# Altium integrated library ECWFD2W105JC.IntLib: 1 symbol
Pins are listed as number, name and electrical type; pins without a type are passive.

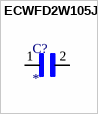
[diagram p0: symbol ECWFD2W105JC]

## ECWFD2W105JC
designator C?
MP: ECWFD2W105JC; Value: *; Price: None; Package: None; Availability: Unavailable
footprint CAPRR1500W80L1750T780H1100
pins: 1, 2